# Altium footprint library Molex Minifit 3x2.PcbLib: 1 footprints
Each footprint in its own frame and in the unit in brackets; x right, y up, seen from the top. Pads: shape width x height; smd on the part's side, far side on the other; paste and mask are expansions set on the pad; w line width, h text height; cw(c..) or ccw(c..) is an arc to the next point about the centre after c.
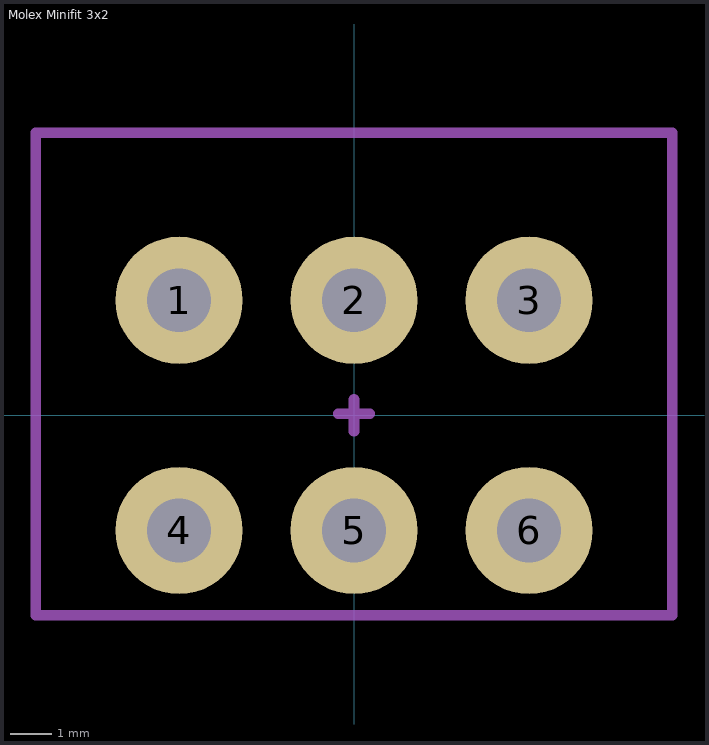
[diagram p0: the footprint, top view; thin cyan lines are the x and y axes]

## Molex Minifit 3x2 [mil] "CONN HEADER VERT 6POS 4.2MM"
pads (6):
  round 120 hole 60: 1(-165,108.5) 2(0,108.5) 3(165,108.5) 4(-165,-108.5) 5(0,-108.5) 6(165,-108.5)
Mechanical 6:
  text "'.Designator" at -105,-6.84 h20
Mechanical 8:
  lines w10: -300,-188.5 -300,266.5 290,266.5 300,266.5 300,-188.5 -300,-188.5
Mechanical 15:
  lines w10: -15,1.5 15,1.5 ; 0,-15 0,15 ; -300,-188.5 300,-188.5 300,266.5 -300,266.5 -300,-188.5
3D body "039281063.stp": height 503.94, standoff -137.8, extent -287.4,-177.48 287.4,255.6